# Altium schematic symbol library EEUTA1V101.SchLib: 1 symbol
Pins are listed as number, name and electrical type; pins without a type are passive.

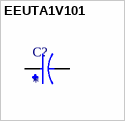
[diagram p0: symbol EEUTA1V101]

## EEUTA1V101
designator C?
CAP ALUM 100UF 20% 35V RADIAL; MF: Panasonic; MP: EEUTA1V101; Package: RADIAL-2 Panasonic; Price: None; Availability: In Stock; Check_prices: https://www.snapeda.com/parts/EEUTA1V101/Panasonic/view-part/5783936/?ref=eda; SnapEDA_Link: https://www.snapeda.com/parts/EEUTA1V101/Panasonic/view-part/5783936/?ref=snap; Value: *
footprint CAPPRD500W60D1000H1250
pins: N, P